# Altium footprint library PCB - CONNECTOR - HARWIN - HARWIN M20-9960245.PcbLib: 1 footprints
Each footprint in its own frame and in the unit in brackets; x right, y up, seen from the top. Pads: shape width x height; smd on the part's side, far side on the other; paste and mask are expansions set on the pad; w line width, h text height; cw(c..) or ccw(c..) is an arc to the next point about the centre after c.
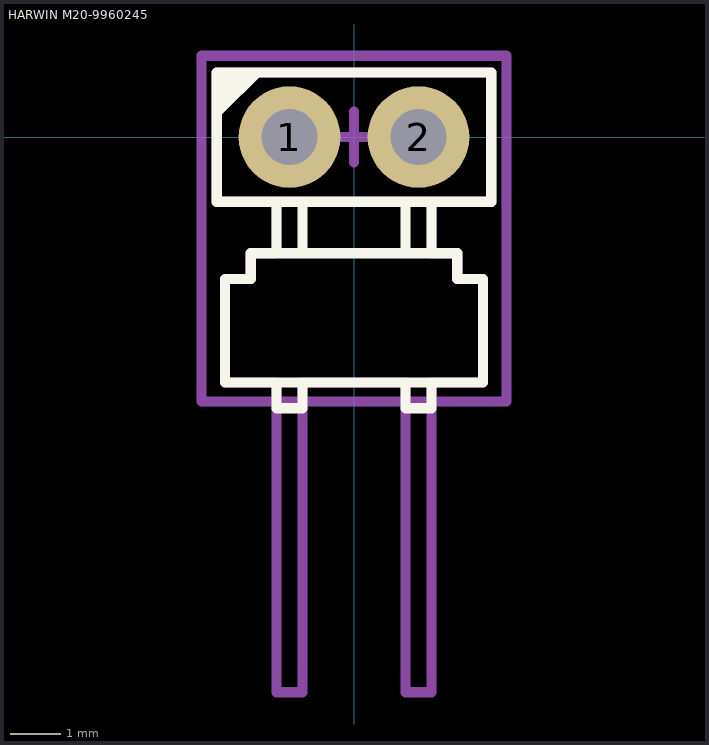
[diagram p0: the footprint, top view; thin cyan lines are the x and y axes]

## HARWIN M20-9960245 [mm] "2.54mm DIL PC TAIL PIN HEADER ASSEMBLY"
height 2.54
pads (2):
  round 2 hole 1.1: 1(-1.27,0) 2(1.27,0)
Top Overlay:
  region: -2.65,1.3 -2.65,0.4 -1.75,1.3
  lines w0.2: -1.524,-4.826 -1.524,-5.334 -1.016,-5.334 -1.016,-4.826 ; -1.524,-2.286 -1.524,-1.27 ; -1.016,-2.286 -1.016,-1.27 ; 1.016,-4.826 1.016,-5.334 1.524,-5.334 1.524,-4.826 ; 1.016,-2.286 1.016,-1.27 ; 1.524,-2.286 1.524,-1.27 ; -2.7,-1.27 2.7,-1.27 2.7,1.27 -2.7,1.27 -2.7,-1.27 ; -2.54,-4.826 2.54,-4.826 2.54,-2.794 2.032,-2.794 2.032,-2.286 -2.032,-2.286 -2.032,-2.794 -2.54,-2.794 -2.54,-4.826
Top Assembly:
  lines w0.2: -1.524,-1.27 -1.524,-2.286 -2.032,-2.286 -2.032,-2.794 -2.54,-2.794 -2.54,-4.826 -1.524,-4.826 -1.524,-10.922 -1.016,-10.922 -1.016,-4.826 1.016,-4.826 1.016,-10.922 1.524,-10.922 1.524,-4.826 2.54,-4.826 2.54,-2.794 2.032,-2.794 2.032,-2.286 1.524,-2.286 1.524,-1.27 ; -0.5,0 0.5,0 ; 0,-0.5 0,0.5 ; -2.7,-1.27 2.7,-1.27 2.7,1.27 -2.7,1.27 -2.7,-1.27
Top Courtyard (Mech15):
  lines w0.2: -3,-5.2 -3,1.6 3,1.6 3,-5.2 -3,-5.2
3D body "HARWIN M20-9960245.step": height 2.54, standoff -3, extent -2.54,-10.9 2.54,0.32